# Altium footprint library TerminalBlock_RND.PcbLib: 132 footprints (part 5 of 9)
Each footprint in its own frame and in the unit in brackets; x right, y up, seen from the top. Pads: shape width x height; smd on the part's side, far side on the other; paste and mask are expansions set on the pad; w line width, h text height; cw(c..) or ccw(c..) is an arc to the next point about the centre after c.
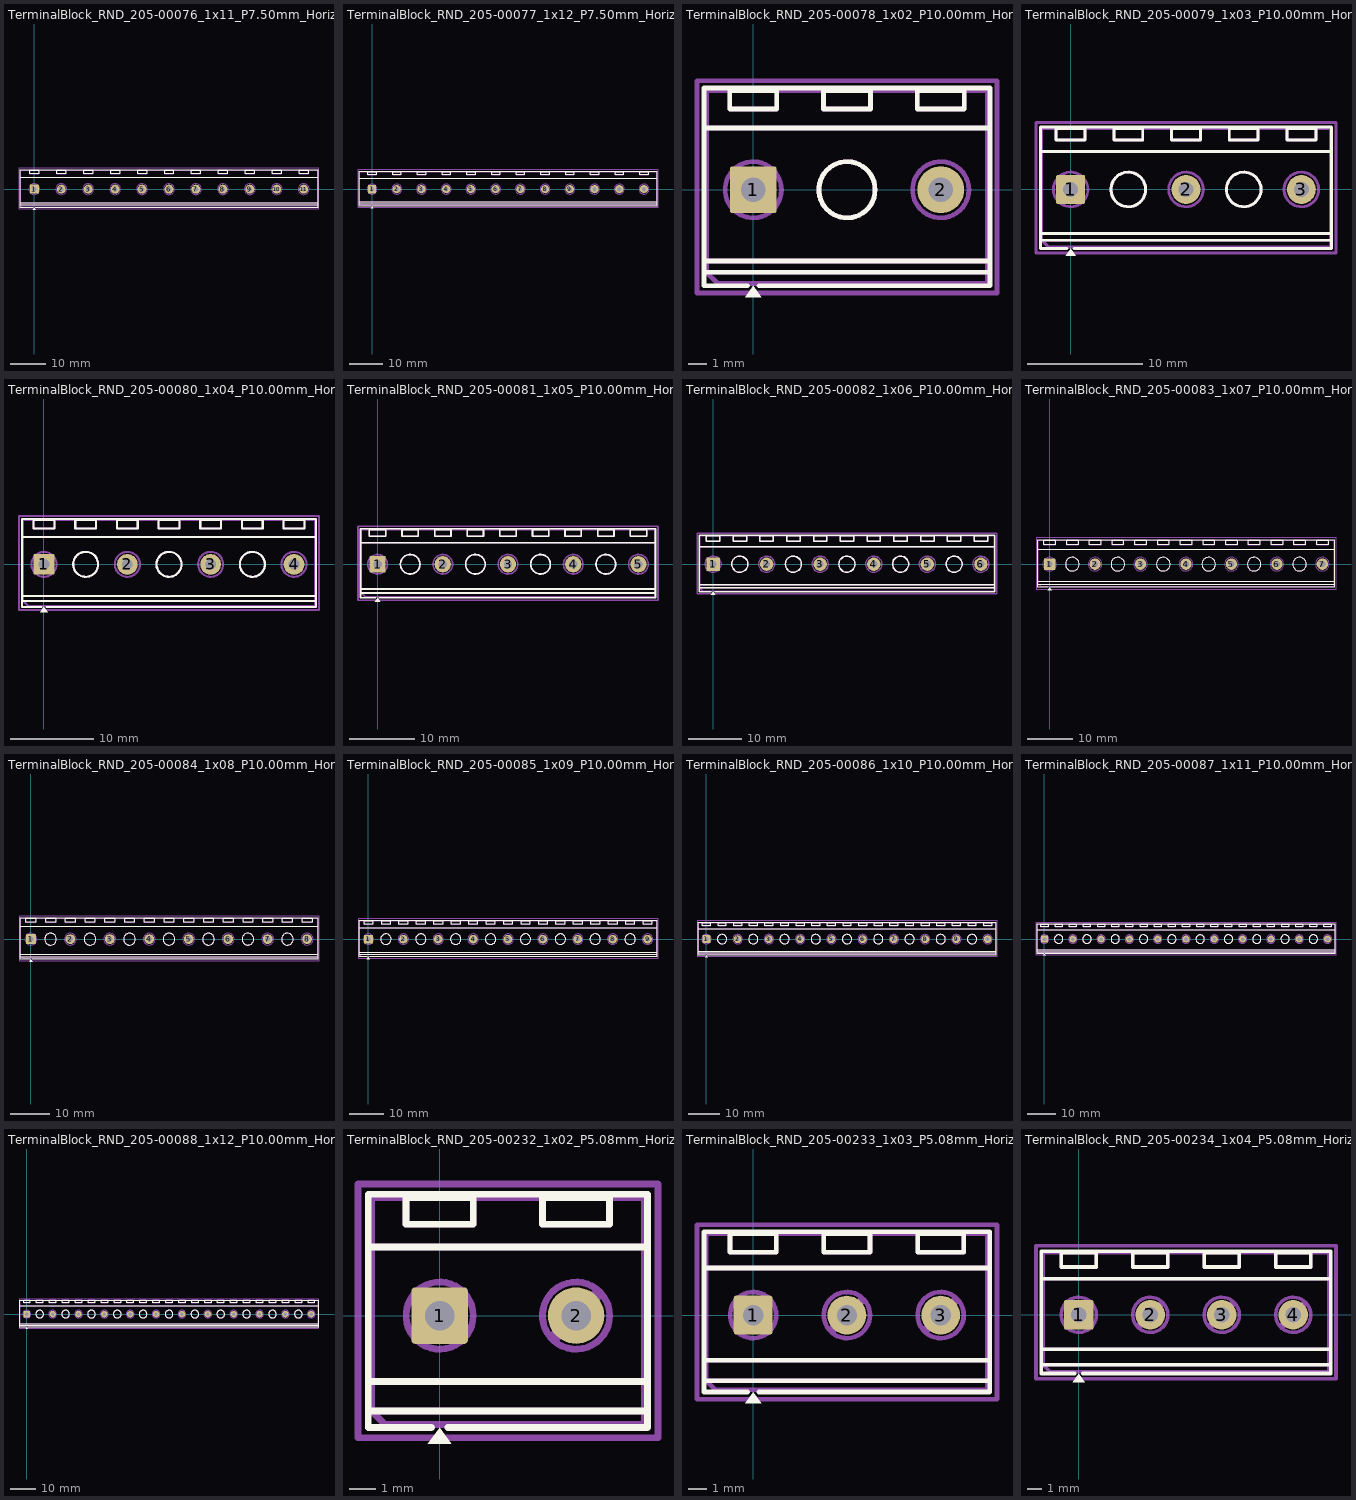
[diagram p4: the footprints below, top view; thin cyan lines are the x and y axes]

## TerminalBlock_RND_205-00076_1x11_P7.50mm_Horizontal [mm]
pads (11):
  rrect10% 2.5x2.5 hole 1.3: 1(0,0)
  round 2.5 hole 1.3: 2(7.5,0) 3(15,0) 4(22.5,0) 5(30,0) 6(37.5,0) 7(45,0) 8(52.5,0) 9(60,0) 10(67.5,0) 11(75,0)
F.SilkS:
  region: 0.44,-5.73 -0.44,-5.73 0,-5.12
  lines w0.254: -3.87,-4.4 78.87,-4.4 ; -3.87,-3.8 78.87,-3.8 ; -3.87,3.3 78.87,3.3 ; -0.3,-5.12 -3.87,-5.12 -3.87,5.42 78.87,5.42 78.87,-5.12 0.3,-5.12 ; -1.25,4.3 -1.25,5.3 1.25,5.3 1.25,4.3 -1.25,4.3 ; 6.25,4.3 6.25,5.3 8.75,5.3 8.75,4.3 6.25,4.3 ; 13.75,4.3 13.75,5.3 16.25,5.3 16.25,4.3 13.75,4.3 ; 21.25,4.3 21.25,5.3 23.75,5.3 23.75,4.3 21.25,4.3 ; 28.75,4.3 28.75,5.3 31.25,5.3 31.25,4.3 28.75,4.3 ; 36.25,4.3 36.25,5.3 38.75,5.3 38.75,4.3 36.25,4.3 ; 43.75,4.3 43.75,5.3 46.25,5.3 46.25,4.3 43.75,4.3 ; 51.25,4.3 51.25,5.3 53.75,5.3 53.75,4.3 51.25,4.3 ; 58.75,4.3 58.75,5.3 61.25,5.3 61.25,4.3 58.75,4.3 ; 66.25,4.3 66.25,5.3 68.75,5.3 68.75,4.3 66.25,4.3 ; 73.75,4.3 73.75,5.3 76.25,5.3 76.25,4.3 73.75,4.3
F.Fab:
  circle w0.254: c0,0 r1.5
  circle w0.254: c7.5,0 r1.5
  circle w0.254: c15,0 r1.5
  circle w0.254: c22.5,0 r1.5
  circle w0.254: c30,0 r1.5
  circle w0.254: c37.5,0 r1.5
  circle w0.254: c45,0 r1.5
  circle w0.254: c52.5,0 r1.5
  circle w0.254: c60,0 r1.5
  circle w0.254: c67.5,0 r1.5
  circle w0.254: c75,0 r1.5
  lines w0.254: -3.75,-3.8 78.75,-3.8 ; -3.75,3.3 78.75,3.3 ; -1.125,0 1.125,0 ; 0,-1.125 0,1.125 ; 6.375,0 8.625,0 ; 7.5,-1.125 7.5,1.125 ; 13.875,0 16.125,0 ; 15,-1.125 15,1.125 ; 21.375,0 23.625,0 ; 22.5,-1.125 22.5,1.125 ; 28.875,0 31.125,0 ; 30,-1.125 30,1.125 ; 36.375,0 38.625,0 ; 37.5,-1.125 37.5,1.125 ; 43.875,0 46.125,0 ; 45,-1.125 45,1.125 ; 51.375,0 53.625,0 ; 52.5,-1.125 52.5,1.125 ; 58.875,0 61.125,0 ; 60,-1.125 60,1.125 ; 66.375,0 68.625,0 ; 67.5,-1.125 67.5,1.125 ; 73.875,0 76.125,0 ; 75,-1.125 75,1.125 ; 78.75,-4.4 -3.75,-4.4 ; -3.75,-4.4 -3.75,5.3 78.75,5.3 78.75,-5 -3.15,-5 -3.75,-4.4 ; -1.25,4.3 -1.25,5.3 1.25,5.3 1.25,4.3 -1.25,4.3 ; 6.25,4.3 6.25,5.3 8.75,5.3 8.75,4.3 6.25,4.3 ; 13.75,4.3 13.75,5.3 16.25,5.3 16.25,4.3 13.75,4.3 ; 21.25,4.3 21.25,5.3 23.75,5.3 23.75,4.3 21.25,4.3 ; 28.75,4.3 28.75,5.3 31.25,5.3 31.25,4.3 28.75,4.3 ; 36.25,4.3 36.25,5.3 38.75,5.3 38.75,4.3 36.25,4.3 ; 43.75,4.3 43.75,5.3 46.25,5.3 46.25,4.3 43.75,4.3 ; 51.25,4.3 51.25,5.3 53.75,5.3 53.75,4.3 51.25,4.3 ; 58.75,4.3 58.75,5.3 61.25,5.3 61.25,4.3 58.75,4.3 ; 66.25,4.3 66.25,5.3 68.75,5.3 68.75,4.3 66.25,4.3 ; 73.75,4.3 73.75,5.3 76.25,5.3 76.25,4.3 73.75,4.3
  text "'.Designator'" at 33.453,-3.69 h1
F.CrtYd:
  lines w0.254: -4.25,-5.5 -4.25,5.81 79.25,5.81 79.25,-5.5 -4.25,-5.5

## TerminalBlock_RND_205-00077_1x12_P7.50mm_Horizontal [mm]
pads (12):
  rrect10% 2.5x2.5 hole 1.3: 1(0,0)
  round 2.5 hole 1.3: 2(7.5,0) 3(15,0) 4(22.5,0) 5(30,0) 6(37.5,0) 7(45,0) 8(52.5,0) 9(60,0) 10(67.5,0) 11(75,0) 12(82.5,0)
F.SilkS:
  region: 0.44,-5.73 -0.44,-5.73 0,-5.12
  lines w0.254: -3.87,-4.4 86.37,-4.4 ; -3.87,-3.8 86.37,-3.8 ; -3.87,3.3 86.37,3.3 ; -0.3,-5.12 -3.87,-5.12 -3.87,5.42 86.37,5.42 86.37,-5.12 0.3,-5.12 ; -1.25,4.3 -1.25,5.3 1.25,5.3 1.25,4.3 -1.25,4.3 ; 6.25,4.3 6.25,5.3 8.75,5.3 8.75,4.3 6.25,4.3 ; 13.75,4.3 13.75,5.3 16.25,5.3 16.25,4.3 13.75,4.3 ; 21.25,4.3 21.25,5.3 23.75,5.3 23.75,4.3 21.25,4.3 ; 28.75,4.3 28.75,5.3 31.25,5.3 31.25,4.3 28.75,4.3 ; 36.25,4.3 36.25,5.3 38.75,5.3 38.75,4.3 36.25,4.3 ; 43.75,4.3 43.75,5.3 46.25,5.3 46.25,4.3 43.75,4.3 ; 51.25,4.3 51.25,5.3 53.75,5.3 53.75,4.3 51.25,4.3 ; 58.75,4.3 58.75,5.3 61.25,5.3 61.25,4.3 58.75,4.3 ; 66.25,4.3 66.25,5.3 68.75,5.3 68.75,4.3 66.25,4.3 ; 73.75,4.3 73.75,5.3 76.25,5.3 76.25,4.3 73.75,4.3 ; 81.25,4.3 81.25,5.3 83.75,5.3 83.75,4.3 81.25,4.3
F.Fab:
  circle w0.254: c0,0 r1.5
  circle w0.254: c7.5,0 r1.5
  circle w0.254: c15,0 r1.5
  circle w0.254: c22.5,0 r1.5
  circle w0.254: c30,0 r1.5
  circle w0.254: c37.5,0 r1.5
  circle w0.254: c45,0 r1.5
  circle w0.254: c52.5,0 r1.5
  circle w0.254: c60,0 r1.5
  circle w0.254: c67.5,0 r1.5
  circle w0.254: c75,0 r1.5
  circle w0.254: c82.5,0 r1.5
  lines w0.254: -3.75,-3.8 86.25,-3.8 ; -3.75,3.3 86.25,3.3 ; -1.125,0 1.125,0 ; 0,-1.125 0,1.125 ; 6.375,0 8.625,0 ; 7.5,-1.125 7.5,1.125 ; 13.875,0 16.125,0 ; 15,-1.125 15,1.125 ; 21.375,0 23.625,0 ; 22.5,-1.125 22.5,1.125 ; 28.875,0 31.125,0 ; 30,-1.125 30,1.125 ; 36.375,0 38.625,0 ; 37.5,-1.125 37.5,1.125 ; 43.875,0 46.125,0 ; 45,-1.125 45,1.125 ; 51.375,0 53.625,0 ; 52.5,-1.125 52.5,1.125 ; 58.875,0 61.125,0 ; 60,-1.125 60,1.125 ; 66.375,0 68.625,0 ; 67.5,-1.125 67.5,1.125 ; 73.875,0 76.125,0 ; 75,-1.125 75,1.125 ; 81.375,0 83.625,0 ; 82.5,-1.125 82.5,1.125 ; 86.25,-4.4 -3.75,-4.4 ; -3.75,-4.4 -3.75,5.3 86.25,5.3 86.25,-5 -3.15,-5 -3.75,-4.4 ; -1.25,4.3 -1.25,5.3 1.25,5.3 1.25,4.3 -1.25,4.3 ; 6.25,4.3 6.25,5.3 8.75,5.3 8.75,4.3 6.25,4.3 ; 13.75,4.3 13.75,5.3 16.25,5.3 16.25,4.3 13.75,4.3 ; 21.25,4.3 21.25,5.3 23.75,5.3 23.75,4.3 21.25,4.3 ; 28.75,4.3 28.75,5.3 31.25,5.3 31.25,4.3 28.75,4.3 ; 36.25,4.3 36.25,5.3 38.75,5.3 38.75,4.3 36.25,4.3 ; 43.75,4.3 43.75,5.3 46.25,5.3 46.25,4.3 43.75,4.3 ; 51.25,4.3 51.25,5.3 53.75,5.3 53.75,4.3 51.25,4.3 ; 58.75,4.3 58.75,5.3 61.25,5.3 61.25,4.3 58.75,4.3 ; 66.25,4.3 66.25,5.3 68.75,5.3 68.75,4.3 66.25,4.3 ; 73.75,4.3 73.75,5.3 76.25,5.3 76.25,4.3 73.75,4.3 ; 81.25,4.3 81.25,5.3 83.75,5.3 83.75,4.3 81.25,4.3
  text "'.Designator'" at 37.203,-3.69 h1
F.CrtYd:
  lines w0.254: -4.25,-5.5 -4.25,5.81 86.75,5.81 86.75,-5.5 -4.25,-5.5

## TerminalBlock_RND_205-00078_1x02_P10.00mm_Horizontal [mm]
pads (2):
  rrect10% 2.5x2.5 hole 1.3: 1(0,0)
  round 2.5 hole 1.3: 2(10,0)
F.SilkS:
  circle w0.254: c5,0 r1.5
  region: 0.44,-5.73 -0.44,-5.73 0,-5.12
  lines w0.254: -2.62,-4.4 12.62,-4.4 ; -2.62,-3.8 12.62,-3.8 ; -2.62,3.3 12.62,3.3 ; -0.3,-5.12 -2.62,-5.12 -2.62,5.42 12.62,5.42 12.62,-5.12 0.3,-5.12 ; -1.25,4.3 -1.25,5.3 1.25,5.3 1.25,4.3 -1.25,4.3 ; 3.75,4.3 3.75,5.3 6.25,5.3 6.25,4.3 3.75,4.3 ; 8.75,4.3 8.75,5.3 11.25,5.3 11.25,4.3 8.75,4.3
F.Fab:
  circle w0.254: c0,0 r1.5
  circle w0.254: c5,0 r1.5
  circle w0.254: c10,0 r1.5
  lines w0.254: -2.5,-3.8 12.5,-3.8 ; -2.5,3.3 12.5,3.3 ; -1.125,0 1.125,0 ; 0,-1.125 0,1.125 ; 8.875,0 11.125,0 ; 10,-1.125 10,1.125 ; 12.5,-4.4 -2.5,-4.4 ; -2.5,-4.4 -2.5,5.3 12.5,5.3 12.5,-5 -1.9,-5 -2.5,-4.4 ; -1.25,4.3 -1.25,5.3 1.25,5.3 1.25,4.3 -1.25,4.3 ; 3.75,4.3 3.75,5.3 6.25,5.3 6.25,4.3 3.75,4.3 ; 8.75,4.3 8.75,5.3 11.25,5.3 11.25,4.3 8.75,4.3
  text "'.Designator'" at 0.953,-3.69 h1
F.CrtYd:
  lines w0.254: -3,-5.5 -3,5.81 13,5.81 13,-5.5 -3,-5.5

## TerminalBlock_RND_205-00079_1x03_P10.00mm_Horizontal [mm]
pads (3):
  rrect10% 2.5x2.5 hole 1.3: 1(0,0)
  round 2.5 hole 1.3: 2(10,0) 3(20,0)
F.SilkS:
  circle w0.254: c5,0 r1.5
  circle w0.254: c15,0 r1.5
  region: 0.44,-5.73 -0.44,-5.73 0,-5.12
  lines w0.254: -2.62,-4.4 22.62,-4.4 ; -2.62,-3.8 22.62,-3.8 ; -2.62,3.3 22.62,3.3 ; -0.3,-5.12 -2.62,-5.12 -2.62,5.42 22.62,5.42 22.62,-5.12 0.3,-5.12 ; -1.25,4.3 -1.25,5.3 1.25,5.3 1.25,4.3 -1.25,4.3 ; 3.75,4.3 3.75,5.3 6.25,5.3 6.25,4.3 3.75,4.3 ; 8.75,4.3 8.75,5.3 11.25,5.3 11.25,4.3 8.75,4.3 ; 13.75,4.3 13.75,5.3 16.25,5.3 16.25,4.3 13.75,4.3 ; 18.75,4.3 18.75,5.3 21.25,5.3 21.25,4.3 18.75,4.3
F.Fab:
  circle w0.254: c0,0 r1.5
  circle w0.254: c5,0 r1.5
  circle w0.254: c10,0 r1.5
  circle w0.254: c15,0 r1.5
  circle w0.254: c20,0 r1.5
  lines w0.254: -2.5,-3.8 22.5,-3.8 ; -2.5,3.3 22.5,3.3 ; -1.125,0 1.125,0 ; 0,-1.125 0,1.125 ; 8.875,0 11.125,0 ; 10,-1.125 10,1.125 ; 18.875,0 21.125,0 ; 20,-1.125 20,1.125 ; 22.5,-4.4 -2.5,-4.4 ; -2.5,-4.4 -2.5,5.3 22.5,5.3 22.5,-5 -1.9,-5 -2.5,-4.4 ; -1.25,4.3 -1.25,5.3 1.25,5.3 1.25,4.3 -1.25,4.3 ; 3.75,4.3 3.75,5.3 6.25,5.3 6.25,4.3 3.75,4.3 ; 8.75,4.3 8.75,5.3 11.25,5.3 11.25,4.3 8.75,4.3 ; 13.75,4.3 13.75,5.3 16.25,5.3 16.25,4.3 13.75,4.3 ; 18.75,4.3 18.75,5.3 21.25,5.3 21.25,4.3 18.75,4.3
  text "'.Designator'" at 5.953,-3.69 h1
F.CrtYd:
  lines w0.254: -3,-5.5 -3,5.81 23,5.81 23,-5.5 -3,-5.5

## TerminalBlock_RND_205-00080_1x04_P10.00mm_Horizontal [mm]
pads (4):
  rrect10% 2.5x2.5 hole 1.3: 1(0,0)
  round 2.5 hole 1.3: 2(10,0) 3(20,0) 4(30,0)
F.SilkS:
  circle w0.254: c5,0 r1.5
  circle w0.254: c15,0 r1.5
  circle w0.254: c25,0 r1.5
  region: 0.44,-5.73 -0.44,-5.73 0,-5.12
  lines w0.254: -2.62,-4.4 32.62,-4.4 ; -2.62,-3.8 32.62,-3.8 ; -2.62,3.3 32.62,3.3 ; -0.3,-5.12 -2.62,-5.12 -2.62,5.42 32.62,5.42 32.62,-5.12 0.3,-5.12 ; -1.25,4.3 -1.25,5.3 1.25,5.3 1.25,4.3 -1.25,4.3 ; 3.75,4.3 3.75,5.3 6.25,5.3 6.25,4.3 3.75,4.3 ; 8.75,4.3 8.75,5.3 11.25,5.3 11.25,4.3 8.75,4.3 ; 13.75,4.3 13.75,5.3 16.25,5.3 16.25,4.3 13.75,4.3 ; 18.75,4.3 18.75,5.3 21.25,5.3 21.25,4.3 18.75,4.3 ; 23.75,4.3 23.75,5.3 26.25,5.3 26.25,4.3 23.75,4.3 ; 28.75,4.3 28.75,5.3 31.25,5.3 31.25,4.3 28.75,4.3
F.Fab:
  circle w0.254: c0,0 r1.5
  circle w0.254: c5,0 r1.5
  circle w0.254: c10,0 r1.5
  circle w0.254: c15,0 r1.5
  circle w0.254: c20,0 r1.5
  circle w0.254: c25,0 r1.5
  circle w0.254: c30,0 r1.5
  lines w0.254: -2.5,-3.8 32.5,-3.8 ; -2.5,3.3 32.5,3.3 ; -1.125,0 1.125,0 ; 0,-1.125 0,1.125 ; 8.875,0 11.125,0 ; 10,-1.125 10,1.125 ; 18.875,0 21.125,0 ; 20,-1.125 20,1.125 ; 28.875,0 31.125,0 ; 30,-1.125 30,1.125 ; 32.5,-4.4 -2.5,-4.4 ; -2.5,-4.4 -2.5,5.3 32.5,5.3 32.5,-5 -1.9,-5 -2.5,-4.4 ; -1.25,4.3 -1.25,5.3 1.25,5.3 1.25,4.3 -1.25,4.3 ; 3.75,4.3 3.75,5.3 6.25,5.3 6.25,4.3 3.75,4.3 ; 8.75,4.3 8.75,5.3 11.25,5.3 11.25,4.3 8.75,4.3 ; 13.75,4.3 13.75,5.3 16.25,5.3 16.25,4.3 13.75,4.3 ; 18.75,4.3 18.75,5.3 21.25,5.3 21.25,4.3 18.75,4.3 ; 23.75,4.3 23.75,5.3 26.25,5.3 26.25,4.3 23.75,4.3 ; 28.75,4.3 28.75,5.3 31.25,5.3 31.25,4.3 28.75,4.3
  text "'.Designator'" at 10.953,-3.69 h1
F.CrtYd:
  lines w0.254: -3,-5.5 -3,5.81 33,5.81 33,-5.5 -3,-5.5

## TerminalBlock_RND_205-00081_1x05_P10.00mm_Horizontal [mm]
pads (5):
  rrect10% 2.5x2.5 hole 1.3: 1(0,0)
  round 2.5 hole 1.3: 2(10,0) 3(20,0) 4(30,0) 5(40,0)
F.SilkS:
  circle w0.254: c5,0 r1.5
  circle w0.254: c15,0 r1.5
  circle w0.254: c25,0 r1.5
  circle w0.254: c35,0 r1.5
  region: 0.44,-5.73 -0.44,-5.73 0,-5.12
  lines w0.254: -2.62,-4.4 42.62,-4.4 ; -2.62,-3.8 42.62,-3.8 ; -2.62,3.3 42.62,3.3 ; -0.3,-5.12 -2.62,-5.12 -2.62,5.42 42.62,5.42 42.62,-5.12 0.3,-5.12 ; -1.25,4.3 -1.25,5.3 1.25,5.3 1.25,4.3 -1.25,4.3 ; 3.75,4.3 3.75,5.3 6.25,5.3 6.25,4.3 3.75,4.3 ; 8.75,4.3 8.75,5.3 11.25,5.3 11.25,4.3 8.75,4.3 ; 13.75,4.3 13.75,5.3 16.25,5.3 16.25,4.3 13.75,4.3 ; 18.75,4.3 18.75,5.3 21.25,5.3 21.25,4.3 18.75,4.3 ; 23.75,4.3 23.75,5.3 26.25,5.3 26.25,4.3 23.75,4.3 ; 28.75,4.3 28.75,5.3 31.25,5.3 31.25,4.3 28.75,4.3 ; 33.75,4.3 33.75,5.3 36.25,5.3 36.25,4.3 33.75,4.3 ; 38.75,4.3 38.75,5.3 41.25,5.3 41.25,4.3 38.75,4.3
F.Fab:
  circle w0.254: c0,0 r1.5
  circle w0.254: c5,0 r1.5
  circle w0.254: c10,0 r1.5
  circle w0.254: c15,0 r1.5
  circle w0.254: c20,0 r1.5
  circle w0.254: c25,0 r1.5
  circle w0.254: c30,0 r1.5
  circle w0.254: c35,0 r1.5
  circle w0.254: c40,0 r1.5
  lines w0.254: -2.5,-3.8 42.5,-3.8 ; -2.5,3.3 42.5,3.3 ; -1.125,0 1.125,0 ; 0,-1.125 0,1.125 ; 8.875,0 11.125,0 ; 10,-1.125 10,1.125 ; 18.875,0 21.125,0 ; 20,-1.125 20,1.125 ; 28.875,0 31.125,0 ; 30,-1.125 30,1.125 ; 38.875,0 41.125,0 ; 40,-1.125 40,1.125 ; 42.5,-4.4 -2.5,-4.4 ; -2.5,-4.4 -2.5,5.3 42.5,5.3 42.5,-5 -1.9,-5 -2.5,-4.4 ; -1.25,4.3 -1.25,5.3 1.25,5.3 1.25,4.3 -1.25,4.3 ; 3.75,4.3 3.75,5.3 6.25,5.3 6.25,4.3 3.75,4.3 ; 8.75,4.3 8.75,5.3 11.25,5.3 11.25,4.3 8.75,4.3 ; 13.75,4.3 13.75,5.3 16.25,5.3 16.25,4.3 13.75,4.3 ; 18.75,4.3 18.75,5.3 21.25,5.3 21.25,4.3 18.75,4.3 ; 23.75,4.3 23.75,5.3 26.25,5.3 26.25,4.3 23.75,4.3 ; 28.75,4.3 28.75,5.3 31.25,5.3 31.25,4.3 28.75,4.3 ; 33.75,4.3 33.75,5.3 36.25,5.3 36.25,4.3 33.75,4.3 ; 38.75,4.3 38.75,5.3 41.25,5.3 41.25,4.3 38.75,4.3
  text "'.Designator'" at 15.953,-3.69 h1
F.CrtYd:
  lines w0.254: -3,-5.5 -3,5.81 43,5.81 43,-5.5 -3,-5.5

## TerminalBlock_RND_205-00082_1x06_P10.00mm_Horizontal [mm]
pads (6):
  rrect10% 2.5x2.5 hole 1.3: 1(0,0)
  round 2.5 hole 1.3: 2(10,0) 3(20,0) 4(30,0) 5(40,0) 6(50,0)
F.SilkS:
  circle w0.254: c5,0 r1.5
  circle w0.254: c15,0 r1.5
  circle w0.254: c25,0 r1.5
  circle w0.254: c35,0 r1.5
  circle w0.254: c45,0 r1.5
  region: 0.44,-5.73 -0.44,-5.73 0,-5.12
  lines w0.254: -2.62,-4.4 52.62,-4.4 ; -2.62,-3.8 52.62,-3.8 ; -2.62,3.3 52.62,3.3 ; -0.3,-5.12 -2.62,-5.12 -2.62,5.42 52.62,5.42 52.62,-5.12 0.3,-5.12 ; -1.25,4.3 -1.25,5.3 1.25,5.3 1.25,4.3 -1.25,4.3 ; 3.75,4.3 3.75,5.3 6.25,5.3 6.25,4.3 3.75,4.3 ; 8.75,4.3 8.75,5.3 11.25,5.3 11.25,4.3 8.75,4.3 ; 13.75,4.3 13.75,5.3 16.25,5.3 16.25,4.3 13.75,4.3 ; 18.75,4.3 18.75,5.3 21.25,5.3 21.25,4.3 18.75,4.3 ; 23.75,4.3 23.75,5.3 26.25,5.3 26.25,4.3 23.75,4.3 ; 28.75,4.3 28.75,5.3 31.25,5.3 31.25,4.3 28.75,4.3 ; 33.75,4.3 33.75,5.3 36.25,5.3 36.25,4.3 33.75,4.3 ; 38.75,4.3 38.75,5.3 41.25,5.3 41.25,4.3 38.75,4.3 ; 43.75,4.3 43.75,5.3 46.25,5.3 46.25,4.3 43.75,4.3 ; 48.75,4.3 48.75,5.3 51.25,5.3 51.25,4.3 48.75,4.3
F.Fab:
  circle w0.254: c0,0 r1.5
  circle w0.254: c5,0 r1.5
  circle w0.254: c10,0 r1.5
  circle w0.254: c15,0 r1.5
  circle w0.254: c20,0 r1.5
  circle w0.254: c25,0 r1.5
  circle w0.254: c30,0 r1.5
  circle w0.254: c35,0 r1.5
  circle w0.254: c40,0 r1.5
  circle w0.254: c45,0 r1.5
  circle w0.254: c50,0 r1.5
  lines w0.254: -2.5,-3.8 52.5,-3.8 ; -2.5,3.3 52.5,3.3 ; -1.125,0 1.125,0 ; 0,-1.125 0,1.125 ; 8.875,0 11.125,0 ; 10,-1.125 10,1.125 ; 18.875,0 21.125,0 ; 20,-1.125 20,1.125 ; 28.875,0 31.125,0 ; 30,-1.125 30,1.125 ; 38.875,0 41.125,0 ; 40,-1.125 40,1.125 ; 48.875,0 51.125,0 ; 50,-1.125 50,1.125 ; 52.5,-4.4 -2.5,-4.4 ; -2.5,-4.4 -2.5,5.3 52.5,5.3 52.5,-5 -1.9,-5 -2.5,-4.4 ; -1.25,4.3 -1.25,5.3 1.25,5.3 1.25,4.3 -1.25,4.3 ; 3.75,4.3 3.75,5.3 6.25,5.3 6.25,4.3 3.75,4.3 ; 8.75,4.3 8.75,5.3 11.25,5.3 11.25,4.3 8.75,4.3 ; 13.75,4.3 13.75,5.3 16.25,5.3 16.25,4.3 13.75,4.3 ; 18.75,4.3 18.75,5.3 21.25,5.3 21.25,4.3 18.75,4.3 ; 23.75,4.3 23.75,5.3 26.25,5.3 26.25,4.3 23.75,4.3 ; 28.75,4.3 28.75,5.3 31.25,5.3 31.25,4.3 28.75,4.3 ; 33.75,4.3 33.75,5.3 36.25,5.3 36.25,4.3 33.75,4.3 ; 38.75,4.3 38.75,5.3 41.25,5.3 41.25,4.3 38.75,4.3 ; 43.75,4.3 43.75,5.3 46.25,5.3 46.25,4.3 43.75,4.3 ; 48.75,4.3 48.75,5.3 51.25,5.3 51.25,4.3 48.75,4.3
  text "'.Designator'" at 20.953,-3.69 h1
F.CrtYd:
  lines w0.254: -3,-5.5 -3,5.81 53,5.81 53,-5.5 -3,-5.5

## TerminalBlock_RND_205-00083_1x07_P10.00mm_Horizontal [mm]
pads (7):
  rrect10% 2.5x2.5 hole 1.3: 1(0,0)
  round 2.5 hole 1.3: 2(10,0) 3(20,0) 4(30,0) 5(40,0) 6(50,0) 7(60,0)
F.SilkS:
  circle w0.254: c5,0 r1.5
  circle w0.254: c15,0 r1.5
  circle w0.254: c25,0 r1.5
  circle w0.254: c35,0 r1.5
  circle w0.254: c45,0 r1.5
  circle w0.254: c55,0 r1.5
  region: 0.44,-5.73 -0.44,-5.73 0,-5.12
  lines w0.254: -2.62,-4.4 62.62,-4.4 ; -2.62,-3.8 62.62,-3.8 ; -2.62,3.3 62.62,3.3 ; -0.3,-5.12 -2.62,-5.12 -2.62,5.42 62.62,5.42 62.62,-5.12 0.3,-5.12 ; -1.25,4.3 -1.25,5.3 1.25,5.3 1.25,4.3 -1.25,4.3 ; 3.75,4.3 3.75,5.3 6.25,5.3 6.25,4.3 3.75,4.3 ; 8.75,4.3 8.75,5.3 11.25,5.3 11.25,4.3 8.75,4.3 ; 13.75,4.3 13.75,5.3 16.25,5.3 16.25,4.3 13.75,4.3 ; 18.75,4.3 18.75,5.3 21.25,5.3 21.25,4.3 18.75,4.3 ; 23.75,4.3 23.75,5.3 26.25,5.3 26.25,4.3 23.75,4.3 ; 28.75,4.3 28.75,5.3 31.25,5.3 31.25,4.3 28.75,4.3 ; 33.75,4.3 33.75,5.3 36.25,5.3 36.25,4.3 33.75,4.3 ; 38.75,4.3 38.75,5.3 41.25,5.3 41.25,4.3 38.75,4.3 ; 43.75,4.3 43.75,5.3 46.25,5.3 46.25,4.3 43.75,4.3 ; 48.75,4.3 48.75,5.3 51.25,5.3 51.25,4.3 48.75,4.3 ; 53.75,4.3 53.75,5.3 56.25,5.3 56.25,4.3 53.75,4.3 ; 58.75,4.3 58.75,5.3 61.25,5.3 61.25,4.3 58.75,4.3
F.Fab:
  circle w0.254: c0,0 r1.5
  circle w0.254: c5,0 r1.5
  circle w0.254: c10,0 r1.5
  circle w0.254: c15,0 r1.5
  circle w0.254: c20,0 r1.5
  circle w0.254: c25,0 r1.5
  circle w0.254: c30,0 r1.5
  circle w0.254: c35,0 r1.5
  circle w0.254: c40,0 r1.5
  circle w0.254: c45,0 r1.5
  circle w0.254: c50,0 r1.5
  circle w0.254: c55,0 r1.5
  circle w0.254: c60,0 r1.5
  lines w0.254: -2.5,-3.8 62.5,-3.8 ; -2.5,3.3 62.5,3.3 ; -1.125,0 1.125,0 ; 0,-1.125 0,1.125 ; 8.875,0 11.125,0 ; 10,-1.125 10,1.125 ; 18.875,0 21.125,0 ; 20,-1.125 20,1.125 ; 28.875,0 31.125,0 ; 30,-1.125 30,1.125 ; 38.875,0 41.125,0 ; 40,-1.125 40,1.125 ; 48.875,0 51.125,0 ; 50,-1.125 50,1.125 ; 58.875,0 61.125,0 ; 60,-1.125 60,1.125 ; 62.5,-4.4 -2.5,-4.4 ; -2.5,-4.4 -2.5,5.3 62.5,5.3 62.5,-5 -1.9,-5 -2.5,-4.4 ; -1.25,4.3 -1.25,5.3 1.25,5.3 1.25,4.3 -1.25,4.3 ; 3.75,4.3 3.75,5.3 6.25,5.3 6.25,4.3 3.75,4.3 ; 8.75,4.3 8.75,5.3 11.25,5.3 11.25,4.3 8.75,4.3 ; 13.75,4.3 13.75,5.3 16.25,5.3 16.25,4.3 13.75,4.3 ; 18.75,4.3 18.75,5.3 21.25,5.3 21.25,4.3 18.75,4.3 ; 23.75,4.3 23.75,5.3 26.25,5.3 26.25,4.3 23.75,4.3 ; 28.75,4.3 28.75,5.3 31.25,5.3 31.25,4.3 28.75,4.3 ; 33.75,4.3 33.75,5.3 36.25,5.3 36.25,4.3 33.75,4.3 ; 38.75,4.3 38.75,5.3 41.25,5.3 41.25,4.3 38.75,4.3 ; 43.75,4.3 43.75,5.3 46.25,5.3 46.25,4.3 43.75,4.3 ; 48.75,4.3 48.75,5.3 51.25,5.3 51.25,4.3 48.75,4.3 ; 53.75,4.3 53.75,5.3 56.25,5.3 56.25,4.3 53.75,4.3 ; 58.75,4.3 58.75,5.3 61.25,5.3 61.25,4.3 58.75,4.3
  text "'.Designator'" at 25.953,-3.69 h1
F.CrtYd:
  lines w0.254: -3,-5.5 -3,5.81 63,5.81 63,-5.5 -3,-5.5

## TerminalBlock_RND_205-00084_1x08_P10.00mm_Horizontal [mm]
pads (8):
  rrect10% 2.5x2.5 hole 1.3: 1(0,0)
  round 2.5 hole 1.3: 2(10,0) 3(20,0) 4(30,0) 5(40,0) 6(50,0) 7(60,0) 8(70,0)
F.SilkS:
  circle w0.254: c5,0 r1.5
  circle w0.254: c15,0 r1.5
  circle w0.254: c25,0 r1.5
  circle w0.254: c35,0 r1.5
  circle w0.254: c45,0 r1.5
  circle w0.254: c55,0 r1.5
  circle w0.254: c65,0 r1.5
  region: 0.44,-5.73 -0.44,-5.73 0,-5.12
  lines w0.254: -2.62,-4.4 72.62,-4.4 ; -2.62,-3.8 72.62,-3.8 ; -2.62,3.3 72.62,3.3 ; -0.3,-5.12 -2.62,-5.12 -2.62,5.42 72.62,5.42 72.62,-5.12 0.3,-5.12 ; -1.25,4.3 -1.25,5.3 1.25,5.3 1.25,4.3 -1.25,4.3 ; 3.75,4.3 3.75,5.3 6.25,5.3 6.25,4.3 3.75,4.3 ; 8.75,4.3 8.75,5.3 11.25,5.3 11.25,4.3 8.75,4.3 ; 13.75,4.3 13.75,5.3 16.25,5.3 16.25,4.3 13.75,4.3 ; 18.75,4.3 18.75,5.3 21.25,5.3 21.25,4.3 18.75,4.3 ; 23.75,4.3 23.75,5.3 26.25,5.3 26.25,4.3 23.75,4.3 ; 28.75,4.3 28.75,5.3 31.25,5.3 31.25,4.3 28.75,4.3 ; 33.75,4.3 33.75,5.3 36.25,5.3 36.25,4.3 33.75,4.3 ; 38.75,4.3 38.75,5.3 41.25,5.3 41.25,4.3 38.75,4.3 ; 43.75,4.3 43.75,5.3 46.25,5.3 46.25,4.3 43.75,4.3 ; 48.75,4.3 48.75,5.3 51.25,5.3 51.25,4.3 48.75,4.3 ; 53.75,4.3 53.75,5.3 56.25,5.3 56.25,4.3 53.75,4.3 ; 58.75,4.3 58.75,5.3 61.25,5.3 61.25,4.3 58.75,4.3 ; 63.75,4.3 63.75,5.3 66.25,5.3 66.25,4.3 63.75,4.3 ; 68.75,4.3 68.75,5.3 71.25,5.3 71.25,4.3 68.75,4.3
F.Fab:
  circle w0.254: c0,0 r1.5
  circle w0.254: c5,0 r1.5
  circle w0.254: c10,0 r1.5
  circle w0.254: c15,0 r1.5
  circle w0.254: c20,0 r1.5
  circle w0.254: c25,0 r1.5
  circle w0.254: c30,0 r1.5
  circle w0.254: c35,0 r1.5
  circle w0.254: c40,0 r1.5
  circle w0.254: c45,0 r1.5
  circle w0.254: c50,0 r1.5
  circle w0.254: c55,0 r1.5
  circle w0.254: c60,0 r1.5
  circle w0.254: c65,0 r1.5
  circle w0.254: c70,0 r1.5
  lines w0.254: -2.5,-3.8 72.5,-3.8 ; -2.5,3.3 72.5,3.3 ; -1.125,0 1.125,0 ; 0,-1.125 0,1.125 ; 8.875,0 11.125,0 ; 10,-1.125 10,1.125 ; 18.875,0 21.125,0 ; 20,-1.125 20,1.125 ; 28.875,0 31.125,0 ; 30,-1.125 30,1.125 ; 38.875,0 41.125,0 ; 40,-1.125 40,1.125 ; 48.875,0 51.125,0 ; 50,-1.125 50,1.125 ; 58.875,0 61.125,0 ; 60,-1.125 60,1.125 ; 68.875,0 71.125,0 ; 70,-1.125 70,1.125 ; 72.5,-4.4 -2.5,-4.4 ; -2.5,-4.4 -2.5,5.3 72.5,5.3 72.5,-5 -1.9,-5 -2.5,-4.4 ; -1.25,4.3 -1.25,5.3 1.25,5.3 1.25,4.3 -1.25,4.3 ; 3.75,4.3 3.75,5.3 6.25,5.3 6.25,4.3 3.75,4.3 ; 8.75,4.3 8.75,5.3 11.25,5.3 11.25,4.3 8.75,4.3 ; 13.75,4.3 13.75,5.3 16.25,5.3 16.25,4.3 13.75,4.3 ; 18.75,4.3 18.75,5.3 21.25,5.3 21.25,4.3 18.75,4.3 ; 23.75,4.3 23.75,5.3 26.25,5.3 26.25,4.3 23.75,4.3 ; 28.75,4.3 28.75,5.3 31.25,5.3 31.25,4.3 28.75,4.3 ; 33.75,4.3 33.75,5.3 36.25,5.3 36.25,4.3 33.75,4.3 ; 38.75,4.3 38.75,5.3 41.25,5.3 41.25,4.3 38.75,4.3 ; 43.75,4.3 43.75,5.3 46.25,5.3 46.25,4.3 43.75,4.3 ; 48.75,4.3 48.75,5.3 51.25,5.3 51.25,4.3 48.75,4.3 ; 53.75,4.3 53.75,5.3 56.25,5.3 56.25,4.3 53.75,4.3 ; 58.75,4.3 58.75,5.3 61.25,5.3 61.25,4.3 58.75,4.3 ; 63.75,4.3 63.75,5.3 66.25,5.3 66.25,4.3 63.75,4.3 ; 68.75,4.3 68.75,5.3 71.25,5.3 71.25,4.3 68.75,4.3
  text "'.Designator'" at 30.953,-3.69 h1
F.CrtYd:
  lines w0.254: -3,-5.5 -3,5.81 73,5.81 73,-5.5 -3,-5.5

## TerminalBlock_RND_205-00085_1x09_P10.00mm_Horizontal [mm]
pads (9):
  rrect10% 2.5x2.5 hole 1.3: 1(0,0)
  round 2.5 hole 1.3: 2(10,0) 3(20,0) 4(30,0) 5(40,0) 6(50,0) 7(60,0) 8(70,0) 9(80,0)
F.SilkS:
  circle w0.254: c5,0 r1.5
  circle w0.254: c15,0 r1.5
  circle w0.254: c25,0 r1.5
  circle w0.254: c35,0 r1.5
  circle w0.254: c45,0 r1.5
  circle w0.254: c55,0 r1.5
  circle w0.254: c65,0 r1.5
  circle w0.254: c75,0 r1.5
  region: 0.44,-5.73 -0.44,-5.73 0,-5.12
  lines w0.254: -2.62,-4.4 82.62,-4.4 ; -2.62,-3.8 82.62,-3.8 ; -2.62,3.3 82.62,3.3 ; -0.3,-5.12 -2.62,-5.12 -2.62,5.42 82.62,5.42 82.62,-5.12 0.3,-5.12 ; -1.25,4.3 -1.25,5.3 1.25,5.3 1.25,4.3 -1.25,4.3 ; 3.75,4.3 3.75,5.3 6.25,5.3 6.25,4.3 3.75,4.3 ; 8.75,4.3 8.75,5.3 11.25,5.3 11.25,4.3 8.75,4.3 ; 13.75,4.3 13.75,5.3 16.25,5.3 16.25,4.3 13.75,4.3 ; 18.75,4.3 18.75,5.3 21.25,5.3 21.25,4.3 18.75,4.3 ; 23.75,4.3 23.75,5.3 26.25,5.3 26.25,4.3 23.75,4.3 ; 28.75,4.3 28.75,5.3 31.25,5.3 31.25,4.3 28.75,4.3 ; 33.75,4.3 33.75,5.3 36.25,5.3 36.25,4.3 33.75,4.3 ; 38.75,4.3 38.75,5.3 41.25,5.3 41.25,4.3 38.75,4.3 ; 43.75,4.3 43.75,5.3 46.25,5.3 46.25,4.3 43.75,4.3 ; 48.75,4.3 48.75,5.3 51.25,5.3 51.25,4.3 48.75,4.3 ; 53.75,4.3 53.75,5.3 56.25,5.3 56.25,4.3 53.75,4.3 ; 58.75,4.3 58.75,5.3 61.25,5.3 61.25,4.3 58.75,4.3 ; 63.75,4.3 63.75,5.3 66.25,5.3 66.25,4.3 63.75,4.3 ; 68.75,4.3 68.75,5.3 71.25,5.3 71.25,4.3 68.75,4.3 ; 73.75,4.3 73.75,5.3 76.25,5.3 76.25,4.3 73.75,4.3 ; 78.75,4.3 78.75,5.3 81.25,5.3 81.25,4.3 78.75,4.3
F.Fab:
  circle w0.254: c0,0 r1.5
  circle w0.254: c5,0 r1.5
  circle w0.254: c10,0 r1.5
  circle w0.254: c15,0 r1.5
  circle w0.254: c20,0 r1.5
  circle w0.254: c25,0 r1.5
  circle w0.254: c30,0 r1.5
  circle w0.254: c35,0 r1.5
  circle w0.254: c40,0 r1.5
  circle w0.254: c45,0 r1.5
  circle w0.254: c50,0 r1.5
  circle w0.254: c55,0 r1.5
  circle w0.254: c60,0 r1.5
  circle w0.254: c65,0 r1.5
  circle w0.254: c70,0 r1.5
  circle w0.254: c75,0 r1.5
  circle w0.254: c80,0 r1.5
  lines w0.254: -2.5,-3.8 82.5,-3.8 ; -2.5,3.3 82.5,3.3 ; -1.125,0 1.125,0 ; 0,-1.125 0,1.125 ; 8.875,0 11.125,0 ; 10,-1.125 10,1.125 ; 18.875,0 21.125,0 ; 20,-1.125 20,1.125 ; 28.875,0 31.125,0 ; 30,-1.125 30,1.125 ; 38.875,0 41.125,0 ; 40,-1.125 40,1.125 ; 48.875,0 51.125,0 ; 50,-1.125 50,1.125 ; 58.875,0 61.125,0 ; 60,-1.125 60,1.125 ; 68.875,0 71.125,0 ; 70,-1.125 70,1.125 ; 78.875,0 81.125,0 ; 80,-1.125 80,1.125 ; 82.5,-4.4 -2.5,-4.4 ; -2.5,-4.4 -2.5,5.3 82.5,5.3 82.5,-5 -1.9,-5 -2.5,-4.4 ; -1.25,4.3 -1.25,5.3 1.25,5.3 1.25,4.3 -1.25,4.3 ; 3.75,4.3 3.75,5.3 6.25,5.3 6.25,4.3 3.75,4.3 ; 8.75,4.3 8.75,5.3 11.25,5.3 11.25,4.3 8.75,4.3 ; 13.75,4.3 13.75,5.3 16.25,5.3 16.25,4.3 13.75,4.3 ; 18.75,4.3 18.75,5.3 21.25,5.3 21.25,4.3 18.75,4.3 ; 23.75,4.3 23.75,5.3 26.25,5.3 26.25,4.3 23.75,4.3 ; 28.75,4.3 28.75,5.3 31.25,5.3 31.25,4.3 28.75,4.3 ; 33.75,4.3 33.75,5.3 36.25,5.3 36.25,4.3 33.75,4.3 ; 38.75,4.3 38.75,5.3 41.25,5.3 41.25,4.3 38.75,4.3 ; 43.75,4.3 43.75,5.3 46.25,5.3 46.25,4.3 43.75,4.3 ; 48.75,4.3 48.75,5.3 51.25,5.3 51.25,4.3 48.75,4.3 ; 53.75,4.3 53.75,5.3 56.25,5.3 56.25,4.3 53.75,4.3 ; 58.75,4.3 58.75,5.3 61.25,5.3 61.25,4.3 58.75,4.3 ; 63.75,4.3 63.75,5.3 66.25,5.3 66.25,4.3 63.75,4.3 ; 68.75,4.3 68.75,5.3 71.25,5.3 71.25,4.3 68.75,4.3 ; 73.75,4.3 73.75,5.3 76.25,5.3 76.25,4.3 73.75,4.3 ; 78.75,4.3 78.75,5.3 81.25,5.3 81.25,4.3 78.75,4.3
  text "'.Designator'" at 35.953,-3.69 h1
F.CrtYd:
  lines w0.254: -3,-5.5 -3,5.81 83,5.81 83,-5.5 -3,-5.5

## TerminalBlock_RND_205-00086_1x10_P10.00mm_Horizontal [mm]
pads (10):
  rrect10% 2.5x2.5 hole 1.3: 1(0,0)
  round 2.5 hole 1.3: 2(10,0) 3(20,0) 4(30,0) 5(40,0) 6(50,0) 7(60,0) 8(70,0) 9(80,0) 10(90,0)
F.SilkS:
  circle w0.254: c5,0 r1.5
  circle w0.254: c15,0 r1.5
  circle w0.254: c25,0 r1.5
  circle w0.254: c35,0 r1.5
  circle w0.254: c45,0 r1.5
  circle w0.254: c55,0 r1.5
  circle w0.254: c65,0 r1.5
  circle w0.254: c75,0 r1.5
  circle w0.254: c85,0 r1.5
  region: 0.44,-5.73 -0.44,-5.73 0,-5.12
  lines w0.254: -2.62,-4.4 92.62,-4.4 ; -2.62,-3.8 92.62,-3.8 ; -2.62,3.3 92.62,3.3 ; -0.3,-5.12 -2.62,-5.12 -2.62,5.42 92.62,5.42 92.62,-5.12 0.3,-5.12 ; -1.25,4.3 -1.25,5.3 1.25,5.3 1.25,4.3 -1.25,4.3 ; 3.75,4.3 3.75,5.3 6.25,5.3 6.25,4.3 3.75,4.3 ; 8.75,4.3 8.75,5.3 11.25,5.3 11.25,4.3 8.75,4.3 ; 13.75,4.3 13.75,5.3 16.25,5.3 16.25,4.3 13.75,4.3 ; 18.75,4.3 18.75,5.3 21.25,5.3 21.25,4.3 18.75,4.3 ; 23.75,4.3 23.75,5.3 26.25,5.3 26.25,4.3 23.75,4.3 ; 28.75,4.3 28.75,5.3 31.25,5.3 31.25,4.3 28.75,4.3 ; 33.75,4.3 33.75,5.3 36.25,5.3 36.25,4.3 33.75,4.3 ; 38.75,4.3 38.75,5.3 41.25,5.3 41.25,4.3 38.75,4.3 ; 43.75,4.3 43.75,5.3 46.25,5.3 46.25,4.3 43.75,4.3 ; 48.75,4.3 48.75,5.3 51.25,5.3 51.25,4.3 48.75,4.3 ; 53.75,4.3 53.75,5.3 56.25,5.3 56.25,4.3 53.75,4.3 ; 58.75,4.3 58.75,5.3 61.25,5.3 61.25,4.3 58.75,4.3 ; 63.75,4.3 63.75,5.3 66.25,5.3 66.25,4.3 63.75,4.3 ; 68.75,4.3 68.75,5.3 71.25,5.3 71.25,4.3 68.75,4.3 ; 73.75,4.3 73.75,5.3 76.25,5.3 76.25,4.3 73.75,4.3 ; 78.75,4.3 78.75,5.3 81.25,5.3 81.25,4.3 78.75,4.3 ; 83.75,4.3 83.75,5.3 86.25,5.3 86.25,4.3 83.75,4.3 ; 88.75,4.3 88.75,5.3 91.25,5.3 91.25,4.3 88.75,4.3
F.Fab:
  circle w0.254: c0,0 r1.5
  circle w0.254: c5,0 r1.5
  circle w0.254: c10,0 r1.5
  circle w0.254: c15,0 r1.5
  circle w0.254: c20,0 r1.5
  circle w0.254: c25,0 r1.5
  circle w0.254: c30,0 r1.5
  circle w0.254: c35,0 r1.5
  circle w0.254: c40,0 r1.5
  circle w0.254: c45,0 r1.5
  circle w0.254: c50,0 r1.5
  circle w0.254: c55,0 r1.5
  circle w0.254: c60,0 r1.5
  circle w0.254: c65,0 r1.5
  circle w0.254: c70,0 r1.5
  circle w0.254: c75,0 r1.5
  circle w0.254: c80,0 r1.5
  circle w0.254: c85,0 r1.5
  circle w0.254: c90,0 r1.5
  lines w0.254: -2.5,-3.8 92.5,-3.8 ; -2.5,3.3 92.5,3.3 ; -1.125,0 1.125,0 ; 0,-1.125 0,1.125 ; 8.875,0 11.125,0 ; 10,-1.125 10,1.125 ; 18.875,0 21.125,0 ; 20,-1.125 20,1.125 ; 28.875,0 31.125,0 ; 30,-1.125 30,1.125 ; 38.875,0 41.125,0 ; 40,-1.125 40,1.125 ; 48.875,0 51.125,0 ; 50,-1.125 50,1.125 ; 58.875,0 61.125,0 ; 60,-1.125 60,1.125 ; 68.875,0 71.125,0 ; 70,-1.125 70,1.125 ; 78.875,0 81.125,0 ; 80,-1.125 80,1.125 ; 88.875,0 91.125,0 ; 90,-1.125 90,1.125 ; 92.5,-4.4 -2.5,-4.4 ; -2.5,-4.4 -2.5,5.3 92.5,5.3 92.5,-5 -1.9,-5 -2.5,-4.4 ; -1.25,4.3 -1.25,5.3 1.25,5.3 1.25,4.3 -1.25,4.3 ; 3.75,4.3 3.75,5.3 6.25,5.3 6.25,4.3 3.75,4.3 ; 8.75,4.3 8.75,5.3 11.25,5.3 11.25,4.3 8.75,4.3 ; 13.75,4.3 13.75,5.3 16.25,5.3 16.25,4.3 13.75,4.3 ; 18.75,4.3 18.75,5.3 21.25,5.3 21.25,4.3 18.75,4.3 ; 23.75,4.3 23.75,5.3 26.25,5.3 26.25,4.3 23.75,4.3 ; 28.75,4.3 28.75,5.3 31.25,5.3 31.25,4.3 28.75,4.3 ; 33.75,4.3 33.75,5.3 36.25,5.3 36.25,4.3 33.75,4.3 ; 38.75,4.3 38.75,5.3 41.25,5.3 41.25,4.3 38.75,4.3 ; 43.75,4.3 43.75,5.3 46.25,5.3 46.25,4.3 43.75,4.3 ; 48.75,4.3 48.75,5.3 51.25,5.3 51.25,4.3 48.75,4.3 ; 53.75,4.3 53.75,5.3 56.25,5.3 56.25,4.3 53.75,4.3 ; 58.75,4.3 58.75,5.3 61.25,5.3 61.25,4.3 58.75,4.3 ; 63.75,4.3 63.75,5.3 66.25,5.3 66.25,4.3 63.75,4.3 ; 68.75,4.3 68.75,5.3 71.25,5.3 71.25,4.3 68.75,4.3 ; 73.75,4.3 73.75,5.3 76.25,5.3 76.25,4.3 73.75,4.3 ; 78.75,4.3 78.75,5.3 81.25,5.3 81.25,4.3 78.75,4.3 ; 83.75,4.3 83.75,5.3 86.25,5.3 86.25,4.3 83.75,4.3 ; 88.75,4.3 88.75,5.3 91.25,5.3 91.25,4.3 88.75,4.3
  text "'.Designator'" at 40.953,-3.69 h1
F.CrtYd:
  lines w0.254: -3,-5.5 -3,5.81 93,5.81 93,-5.5 -3,-5.5

## TerminalBlock_RND_205-00087_1x11_P10.00mm_Horizontal [mm]
pads (11):
  rrect10% 2.5x2.5 hole 1.3: 1(0,0)
  round 2.5 hole 1.3: 2(10,0) 3(20,0) 4(30,0) 5(40,0) 6(50,0) 7(60,0) 8(70,0) 9(80,0) 10(90,0) 11(100,0)
F.SilkS:
  circle w0.254: c5,0 r1.5
  circle w0.254: c15,0 r1.5
  circle w0.254: c25,0 r1.5
  circle w0.254: c35,0 r1.5
  circle w0.254: c45,0 r1.5
  circle w0.254: c55,0 r1.5
  circle w0.254: c65,0 r1.5
  circle w0.254: c75,0 r1.5
  circle w0.254: c85,0 r1.5
  circle w0.254: c95,0 r1.5
  region: 0.44,-5.73 -0.44,-5.73 0,-5.12
  lines w0.254: -2.62,-4.4 102.62,-4.4 ; -2.62,-3.8 102.62,-3.8 ; -2.62,3.3 102.62,3.3 ; -0.3,-5.12 -2.62,-5.12 -2.62,5.42 102.62,5.42 102.62,-5.12 0.3,-5.12 ; -1.25,4.3 -1.25,5.3 1.25,5.3 1.25,4.3 -1.25,4.3 ; 3.75,4.3 3.75,5.3 6.25,5.3 6.25,4.3 3.75,4.3 ; 8.75,4.3 8.75,5.3 11.25,5.3 11.25,4.3 8.75,4.3 ; 13.75,4.3 13.75,5.3 16.25,5.3 16.25,4.3 13.75,4.3 ; 18.75,4.3 18.75,5.3 21.25,5.3 21.25,4.3 18.75,4.3 ; 23.75,4.3 23.75,5.3 26.25,5.3 26.25,4.3 23.75,4.3 ; 28.75,4.3 28.75,5.3 31.25,5.3 31.25,4.3 28.75,4.3 ; 33.75,4.3 33.75,5.3 36.25,5.3 36.25,4.3 33.75,4.3 ; 38.75,4.3 38.75,5.3 41.25,5.3 41.25,4.3 38.75,4.3 ; 43.75,4.3 43.75,5.3 46.25,5.3 46.25,4.3 43.75,4.3 ; 48.75,4.3 48.75,5.3 51.25,5.3 51.25,4.3 48.75,4.3 ; 53.75,4.3 53.75,5.3 56.25,5.3 56.25,4.3 53.75,4.3 ; 58.75,4.3 58.75,5.3 61.25,5.3 61.25,4.3 58.75,4.3 ; 63.75,4.3 63.75,5.3 66.25,5.3 66.25,4.3 63.75,4.3 ; 68.75,4.3 68.75,5.3 71.25,5.3 71.25,4.3 68.75,4.3 ; 73.75,4.3 73.75,5.3 76.25,5.3 76.25,4.3 73.75,4.3 ; 78.75,4.3 78.75,5.3 81.25,5.3 81.25,4.3 78.75,4.3 ; 83.75,4.3 83.75,5.3 86.25,5.3 86.25,4.3 83.75,4.3 ; 88.75,4.3 88.75,5.3 91.25,5.3 91.25,4.3 88.75,4.3 ; 93.75,4.3 93.75,5.3 96.25,5.3 96.25,4.3 93.75,4.3 ; 98.75,4.3 98.75,5.3 101.25,5.3 101.25,4.3 98.75,4.3
F.Fab:
  circle w0.254: c0,0 r1.5
  circle w0.254: c5,0 r1.5
  circle w0.254: c10,0 r1.5
  circle w0.254: c15,0 r1.5
  circle w0.254: c20,0 r1.5
  circle w0.254: c25,0 r1.5
  circle w0.254: c30,0 r1.5
  circle w0.254: c35,0 r1.5
  circle w0.254: c40,0 r1.5
  circle w0.254: c45,0 r1.5
  circle w0.254: c50,0 r1.5
  circle w0.254: c55,0 r1.5
  circle w0.254: c60,0 r1.5
  circle w0.254: c65,0 r1.5
  circle w0.254: c70,0 r1.5
  circle w0.254: c75,0 r1.5
  circle w0.254: c80,0 r1.5
  circle w0.254: c85,0 r1.5
  circle w0.254: c90,0 r1.5
  circle w0.254: c95,0 r1.5
  circle w0.254: c100,0 r1.5
  lines w0.254: -2.5,-3.8 102.5,-3.8 ; -2.5,3.3 102.5,3.3 ; -1.125,0 1.125,0 ; 0,-1.125 0,1.125 ; 8.875,0 11.125,0 ; 10,-1.125 10,1.125 ; 18.875,0 21.125,0 ; 20,-1.125 20,1.125 ; 28.875,0 31.125,0 ; 30,-1.125 30,1.125 ; 38.875,0 41.125,0 ; 40,-1.125 40,1.125 ; 48.875,0 51.125,0 ; 50,-1.125 50,1.125 ; 58.875,0 61.125,0 ; 60,-1.125 60,1.125 ; 68.875,0 71.125,0 ; 70,-1.125 70,1.125 ; 78.875,0 81.125,0 ; 80,-1.125 80,1.125 ; 88.875,0 91.125,0 ; 90,-1.125 90,1.125 ; 98.875,0 101.125,0 ; 100,-1.125 100,1.125 ; 102.5,-4.4 -2.5,-4.4 ; -2.5,-4.4 -2.5,5.3 102.5,5.3 102.5,-5 -1.9,-5 -2.5,-4.4 ; -1.25,4.3 -1.25,5.3 1.25,5.3 1.25,4.3 -1.25,4.3 ; 3.75,4.3 3.75,5.3 6.25,5.3 6.25,4.3 3.75,4.3 ; 8.75,4.3 8.75,5.3 11.25,5.3 11.25,4.3 8.75,4.3 ; 13.75,4.3 13.75,5.3 16.25,5.3 16.25,4.3 13.75,4.3 ; 18.75,4.3 18.75,5.3 21.25,5.3 21.25,4.3 18.75,4.3 ; 23.75,4.3 23.75,5.3 26.25,5.3 26.25,4.3 23.75,4.3 ; 28.75,4.3 28.75,5.3 31.25,5.3 31.25,4.3 28.75,4.3 ; 33.75,4.3 33.75,5.3 36.25,5.3 36.25,4.3 33.75,4.3 ; 38.75,4.3 38.75,5.3 41.25,5.3 41.25,4.3 38.75,4.3 ; 43.75,4.3 43.75,5.3 46.25,5.3 46.25,4.3 43.75,4.3 ; 48.75,4.3 48.75,5.3 51.25,5.3 51.25,4.3 48.75,4.3 ; 53.75,4.3 53.75,5.3 56.25,5.3 56.25,4.3 53.75,4.3 ; 58.75,4.3 58.75,5.3 61.25,5.3 61.25,4.3 58.75,4.3 ; 63.75,4.3 63.75,5.3 66.25,5.3 66.25,4.3 63.75,4.3 ; 68.75,4.3 68.75,5.3 71.25,5.3 71.25,4.3 68.75,4.3 ; 73.75,4.3 73.75,5.3 76.25,5.3 76.25,4.3 73.75,4.3 ; 78.75,4.3 78.75,5.3 81.25,5.3 81.25,4.3 78.75,4.3 ; 83.75,4.3 83.75,5.3 86.25,5.3 86.25,4.3 83.75,4.3 ; 88.75,4.3 88.75,5.3 91.25,5.3 91.25,4.3 88.75,4.3 ; 93.75,4.3 93.75,5.3 96.25,5.3 96.25,4.3 93.75,4.3 ; 98.75,4.3 98.75,5.3 101.25,5.3 101.25,4.3 98.75,4.3
  text "'.Designator'" at 45.953,-3.69 h1
F.CrtYd:
  lines w0.254: -3,-5.5 -3,5.81 103,5.81 103,-5.5 -3,-5.5

## TerminalBlock_RND_205-00088_1x12_P10.00mm_Horizontal [mm]
pads (12):
  rrect10% 2.5x2.5 hole 1.3: 1(0,0)
  round 2.5 hole 1.3: 2(10,0) 3(20,0) 4(30,0) 5(40,0) 6(50,0) 7(60,0) 8(70,0) 9(80,0) 10(90,0) 11(100,0) 12(110,0)
F.SilkS:
  circle w0.254: c5,0 r1.5
  circle w0.254: c15,0 r1.5
  circle w0.254: c25,0 r1.5
  circle w0.254: c35,0 r1.5
  circle w0.254: c45,0 r1.5
  circle w0.254: c55,0 r1.5
  circle w0.254: c65,0 r1.5
  circle w0.254: c75,0 r1.5
  circle w0.254: c85,0 r1.5
  circle w0.254: c95,0 r1.5
  circle w0.254: c105,0 r1.5
  region: 0.44,-5.73 -0.44,-5.73 0,-5.12
  lines w0.254: -2.62,-4.4 112.62,-4.4 ; -2.62,-3.8 112.62,-3.8 ; -2.62,3.3 112.62,3.3 ; -0.3,-5.12 -2.62,-5.12 -2.62,5.42 112.62,5.42 112.62,-5.12 0.3,-5.12 ; -1.25,4.3 -1.25,5.3 1.25,5.3 1.25,4.3 -1.25,4.3 ; 3.75,4.3 3.75,5.3 6.25,5.3 6.25,4.3 3.75,4.3 ; 8.75,4.3 8.75,5.3 11.25,5.3 11.25,4.3 8.75,4.3 ; 13.75,4.3 13.75,5.3 16.25,5.3 16.25,4.3 13.75,4.3 ; 18.75,4.3 18.75,5.3 21.25,5.3 21.25,4.3 18.75,4.3 ; 23.75,4.3 23.75,5.3 26.25,5.3 26.25,4.3 23.75,4.3 ; 28.75,4.3 28.75,5.3 31.25,5.3 31.25,4.3 28.75,4.3 ; 33.75,4.3 33.75,5.3 36.25,5.3 36.25,4.3 33.75,4.3 ; 38.75,4.3 38.75,5.3 41.25,5.3 41.25,4.3 38.75,4.3 ; 43.75,4.3 43.75,5.3 46.25,5.3 46.25,4.3 43.75,4.3 ; 48.75,4.3 48.75,5.3 51.25,5.3 51.25,4.3 48.75,4.3 ; 53.75,4.3 53.75,5.3 56.25,5.3 56.25,4.3 53.75,4.3 ; 58.75,4.3 58.75,5.3 61.25,5.3 61.25,4.3 58.75,4.3 ; 63.75,4.3 63.75,5.3 66.25,5.3 66.25,4.3 63.75,4.3 ; 68.75,4.3 68.75,5.3 71.25,5.3 71.25,4.3 68.75,4.3 ; 73.75,4.3 73.75,5.3 76.25,5.3 76.25,4.3 73.75,4.3 ; 78.75,4.3 78.75,5.3 81.25,5.3 81.25,4.3 78.75,4.3 ; 83.75,4.3 83.75,5.3 86.25,5.3 86.25,4.3 83.75,4.3 ; 88.75,4.3 88.75,5.3 91.25,5.3 91.25,4.3 88.75,4.3 ; 93.75,4.3 93.75,5.3 96.25,5.3 96.25,4.3 93.75,4.3 ; 98.75,4.3 98.75,5.3 101.25,5.3 101.25,4.3 98.75,4.3 ; 103.75,4.3 103.75,5.3 106.25,5.3 106.25,4.3 103.75,4.3 ; 108.75,4.3 108.75,5.3 111.25,5.3 111.25,4.3 108.75,4.3
F.Fab:
  circle w0.254: c0,0 r1.5
  circle w0.254: c5,0 r1.5
  circle w0.254: c10,0 r1.5
  circle w0.254: c15,0 r1.5
  circle w0.254: c20,0 r1.5
  circle w0.254: c25,0 r1.5
  circle w0.254: c30,0 r1.5
  circle w0.254: c35,0 r1.5
  circle w0.254: c40,0 r1.5
  circle w0.254: c45,0 r1.5
  circle w0.254: c50,0 r1.5
  circle w0.254: c55,0 r1.5
  circle w0.254: c60,0 r1.5
  circle w0.254: c65,0 r1.5
  circle w0.254: c70,0 r1.5
  circle w0.254: c75,0 r1.5
  circle w0.254: c80,0 r1.5
  circle w0.254: c85,0 r1.5
  circle w0.254: c90,0 r1.5
  circle w0.254: c95,0 r1.5
  circle w0.254: c100,0 r1.5
  circle w0.254: c105,0 r1.5
  circle w0.254: c110,0 r1.5
  lines w0.254: -2.5,-3.8 112.5,-3.8 ; -2.5,3.3 112.5,3.3 ; -1.125,0 1.125,0 ; 0,-1.125 0,1.125 ; 8.875,0 11.125,0 ; 10,-1.125 10,1.125 ; 18.875,0 21.125,0 ; 20,-1.125 20,1.125 ; 28.875,0 31.125,0 ; 30,-1.125 30,1.125 ; 38.875,0 41.125,0 ; 40,-1.125 40,1.125 ; 48.875,0 51.125,0 ; 50,-1.125 50,1.125 ; 58.875,0 61.125,0 ; 60,-1.125 60,1.125 ; 68.875,0 71.125,0 ; 70,-1.125 70,1.125 ; 78.875,0 81.125,0 ; 80,-1.125 80,1.125 ; 88.875,0 91.125,0 ; 90,-1.125 90,1.125 ; 98.875,0 101.125,0 ; 100,-1.125 100,1.125 ; 108.875,0 111.125,0 ; 110,-1.125 110,1.125 ; 112.5,-4.4 -2.5,-4.4 ; -2.5,-4.4 -2.5,5.3 112.5,5.3 112.5,-5 -1.9,-5 -2.5,-4.4 ; -1.25,4.3 -1.25,5.3 1.25,5.3 1.25,4.3 -1.25,4.3 ; 3.75,4.3 3.75,5.3 6.25,5.3 6.25,4.3 3.75,4.3 ; 8.75,4.3 8.75,5.3 11.25,5.3 11.25,4.3 8.75,4.3 ; 13.75,4.3 13.75,5.3 16.25,5.3 16.25,4.3 13.75,4.3 ; 18.75,4.3 18.75,5.3 21.25,5.3 21.25,4.3 18.75,4.3 ; 23.75,4.3 23.75,5.3 26.25,5.3 26.25,4.3 23.75,4.3 ; 28.75,4.3 28.75,5.3 31.25,5.3 31.25,4.3 28.75,4.3 ; 33.75,4.3 33.75,5.3 36.25,5.3 36.25,4.3 33.75,4.3 ; 38.75,4.3 38.75,5.3 41.25,5.3 41.25,4.3 38.75,4.3 ; 43.75,4.3 43.75,5.3 46.25,5.3 46.25,4.3 43.75,4.3 ; 48.75,4.3 48.75,5.3 51.25,5.3 51.25,4.3 48.75,4.3 ; 53.75,4.3 53.75,5.3 56.25,5.3 56.25,4.3 53.75,4.3 ; 58.75,4.3 58.75,5.3 61.25,5.3 61.25,4.3 58.75,4.3 ; 63.75,4.3 63.75,5.3 66.25,5.3 66.25,4.3 63.75,4.3 ; 68.75,4.3 68.75,5.3 71.25,5.3 71.25,4.3 68.75,4.3 ; 73.75,4.3 73.75,5.3 76.25,5.3 76.25,4.3 73.75,4.3 ; 78.75,4.3 78.75,5.3 81.25,5.3 81.25,4.3 78.75,4.3 ; 83.75,4.3 83.75,5.3 86.25,5.3 86.25,4.3 83.75,4.3 ; 88.75,4.3 88.75,5.3 91.25,5.3 91.25,4.3 88.75,4.3 ; 93.75,4.3 93.75,5.3 96.25,5.3 96.25,4.3 93.75,4.3 ; 98.75,4.3 98.75,5.3 101.25,5.3 101.25,4.3 98.75,4.3 ; 103.75,4.3 103.75,5.3 106.25,5.3 106.25,4.3 103.75,4.3 ; 108.75,4.3 108.75,5.3 111.25,5.3 111.25,4.3 108.75,4.3
  text "'.Designator'" at 50.953,-3.69 h1
F.CrtYd:
  lines w0.254: -3,-5.5 -3,5.81 113,5.81 113,-5.5 -3,-5.5

## TerminalBlock_RND_205-00232_1x02_P5.08mm_Horizontal [mm]
pads (2):
  rrect12% 2.1x2.1 hole 1.1: 1(0,0)
  round 2.1 hole 1.1: 2(5.08,0)
F.SilkS:
  region: 0.44,-4.78 -0.44,-4.78 0,-4.17
  lines w0.254: -2.66,-3.55 7.74,-3.55 ; -2.66,-2.45 7.74,-2.45 ; -2.66,2.55 7.74,2.55 ; -0.3,-4.17 -2.66,-4.17 -2.66,4.52 7.74,4.52 7.74,-4.17 0.3,-4.17 ; -1.25,3.4 -1.25,4.4 1.25,4.4 1.25,3.4 -1.25,3.4 ; 3.83,3.4 3.83,4.4 6.33,4.4 6.33,3.4 3.83,3.4
F.Fab:
  circle w0.254: c0,0 r1.25
  circle w0.254: c5.08,0 r1.25
  lines w0.254: -2.54,-2.45 7.62,-2.45 ; -2.54,2.55 7.62,2.55 ; -0.948,-0.795 0.795,0.948 ; -0.795,-0.948 0.948,0.795 ; 4.132,-0.795 5.875,0.948 ; 4.285,-0.948 6.028,0.795 ; 7.62,-3.55 -2.54,-3.55 ; -2.54,-3.55 -2.54,4.4 7.62,4.4 7.62,-4.05 -2.04,-4.05 -2.54,-3.55 ; -1.25,3.4 -1.25,4.4 1.25,4.4 1.25,3.4 -1.25,3.4 ; 3.83,3.4 3.83,4.4 6.33,4.4 6.33,3.4 3.83,3.4
  text "'.Designator'" at -1.507,4.68 h1
F.CrtYd:
  lines w0.254: -3.04,-4.55 -3.04,4.9 8.13,4.9 8.13,-4.55 -3.04,-4.55

## TerminalBlock_RND_205-00233_1x03_P5.08mm_Horizontal [mm]
pads (3):
  rrect12% 2.1x2.1 hole 1.1: 1(0,0)
  round 2.1 hole 1.1: 2(5.08,0) 3(10.16,0)
F.SilkS:
  region: 0.44,-4.78 -0.44,-4.78 0,-4.17
  lines w0.254: -2.66,-3.55 12.82,-3.55 ; -2.66,-2.45 12.82,-2.45 ; -2.66,2.55 12.82,2.55 ; -0.3,-4.17 -2.66,-4.17 -2.66,4.52 12.82,4.52 12.82,-4.17 0.3,-4.17 ; -1.25,3.4 -1.25,4.4 1.25,4.4 1.25,3.4 -1.25,3.4 ; 3.83,3.4 3.83,4.4 6.33,4.4 6.33,3.4 3.83,3.4 ; 8.91,3.4 8.91,4.4 11.41,4.4 11.41,3.4 8.91,3.4
F.Fab:
  circle w0.254: c0,0 r1.25
  circle w0.254: c5.08,0 r1.25
  circle w0.254: c10.16,0 r1.25
  lines w0.254: -2.54,-2.45 12.7,-2.45 ; -2.54,2.55 12.7,2.55 ; -0.948,-0.795 0.795,0.948 ; -0.795,-0.948 0.948,0.795 ; 4.132,-0.795 5.875,0.948 ; 4.285,-0.948 6.028,0.795 ; 9.212,-0.795 10.955,0.948 ; 9.365,-0.948 11.108,0.795 ; 12.7,-3.55 -2.54,-3.55 ; -2.54,-3.55 -2.54,4.4 12.7,4.4 12.7,-4.05 -2.04,-4.05 -2.54,-3.55 ; -1.25,3.4 -1.25,4.4 1.25,4.4 1.25,3.4 -1.25,3.4 ; 3.83,3.4 3.83,4.4 6.33,4.4 6.33,3.4 3.83,3.4 ; 8.91,3.4 8.91,4.4 11.41,4.4 11.41,3.4 8.91,3.4
  text "'.Designator'" at 1.033,4.68 h1
F.CrtYd:
  lines w0.254: -3.04,-4.55 -3.04,4.9 13.21,4.9 13.21,-4.55 -3.04,-4.55

## TerminalBlock_RND_205-00234_1x04_P5.08mm_Horizontal [mm]
pads (4):
  rrect12% 2.1x2.1 hole 1.1: 1(0,0)
  round 2.1 hole 1.1: 2(5.08,0) 3(10.16,0) 4(15.24,0)
F.SilkS:
  region: 0.44,-4.78 -0.44,-4.78 0,-4.17
  lines w0.254: -2.66,-3.55 17.9,-3.55 ; -2.66,-2.45 17.9,-2.45 ; -2.66,2.55 17.9,2.55 ; -0.3,-4.17 -2.66,-4.17 -2.66,4.52 17.9,4.52 17.9,-4.17 0.3,-4.17 ; -1.25,3.4 -1.25,4.4 1.25,4.4 1.25,3.4 -1.25,3.4 ; 3.83,3.4 3.83,4.4 6.33,4.4 6.33,3.4 3.83,3.4 ; 8.91,3.4 8.91,4.4 11.41,4.4 11.41,3.4 8.91,3.4 ; 13.99,3.4 13.99,4.4 16.49,4.4 16.49,3.4 13.99,3.4
F.Fab:
  circle w0.254: c0,0 r1.25
  circle w0.254: c5.08,0 r1.25
  circle w0.254: c10.16,0 r1.25
  circle w0.254: c15.24,0 r1.25
  lines w0.254: -2.54,-2.45 17.78,-2.45 ; -2.54,2.55 17.78,2.55 ; -0.948,-0.795 0.795,0.948 ; -0.795,-0.948 0.948,0.795 ; 4.132,-0.795 5.875,0.948 ; 4.285,-0.948 6.028,0.795 ; 9.212,-0.795 10.955,0.948 ; 9.365,-0.948 11.108,0.795 ; 14.292,-0.795 16.035,0.948 ; 14.445,-0.948 16.188,0.795 ; 17.78,-3.55 -2.54,-3.55 ; -2.54,-3.55 -2.54,4.4 17.78,4.4 17.78,-4.05 -2.04,-4.05 -2.54,-3.55 ; -1.25,3.4 -1.25,4.4 1.25,4.4 1.25,3.4 -1.25,3.4 ; 3.83,3.4 3.83,4.4 6.33,4.4 6.33,3.4 3.83,3.4 ; 8.91,3.4 8.91,4.4 11.41,4.4 11.41,3.4 8.91,3.4 ; 13.99,3.4 13.99,4.4 16.49,4.4 16.49,3.4 13.99,3.4
  text "'.Designator'" at 3.573,4.68 h1
F.CrtYd:
  lines w0.254: -3.04,-4.55 -3.04,4.9 18.28,4.9 18.28,-4.55 -3.04,-4.55